# EAGLE library part AFC24-S30FIC-00 (library AFC24-S30FIC-00)
FFC,FPC Contact,Bottom 30 0.020"0.50mm P=0.5mm FFC, FPC Connectors Source: Datasheet <https://datasheet.lcsc.com/szlcsc/JUSHUO-AFC24-S30FIC-00_C262294.pdf>
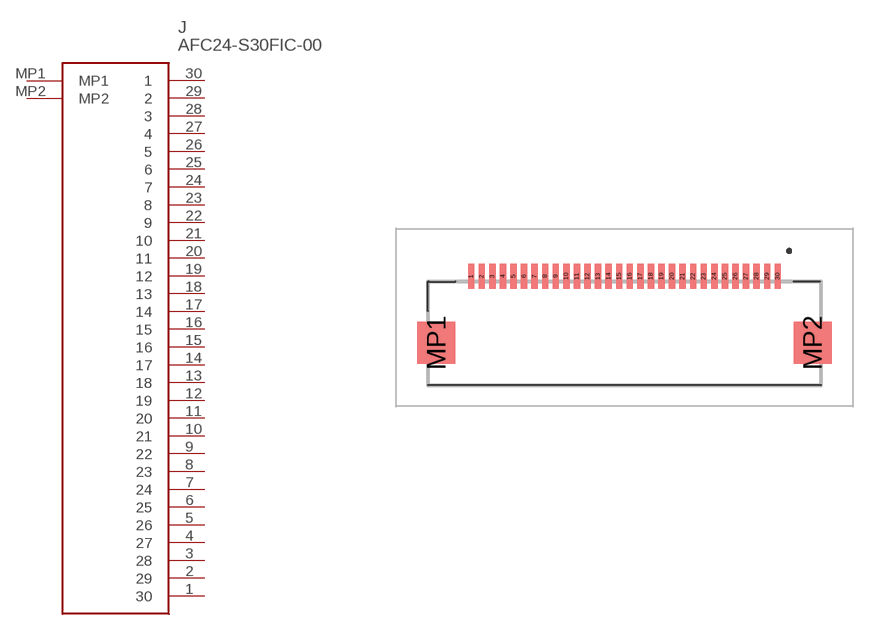
[diagram p0: symbol with the pads of AFC24S30FIC00; footprint AFC24S30FIC00]

Designator prefix J

## AFC24-S30FIC-00 (DESCRIPTION: FFC,FPC Contact,Bottom 30 0.020"0.50mm P=0.5mm FFC, FPC Connectors; HEIGHT: 3.1mm; LCSC_PART_NUMBER: C262294; LCSC_PRICE-STOCK: https://lcsc.com/product-detail/FFC-FPC-Connectors_JUSHUO-AFC24-S30FIC-00_C262294.html; MANUFACTURER_NAME: JUSHUO; MANUFACTURER_PART_NUMBER: AFC24-S30FIC-00)  [AFC24S30FIC00]
1  30
2  29
3  28
4  27
5  26
6  25
7  24
8  23
9  22
10  21
11  20
12  19
13  18
14  17
15  16
16  15
17  14
18  13
19  12
20  11
21  10
22  9
23  8
24  7
25  6
26  5
27  4
28  3
29  2
30  1
MP1  MP1
MP2  MP2

## Footprint AFC24S30FIC00 (pad centres in mm)
AFC24-S30FIC-00-2
smd 0.3 x 1.2: 1 -7.25,2.7; 2 -6.75,2.7; 3 -6.25,2.7; 4 -5.75,2.7; 5 -5.25,2.7; 6 -4.75,2.7; 7 -4.25,2.7; 8 -3.75,2.7; 9 -3.25,2.7; 10 -2.75,2.7; 11 -2.25,2.7; 12 -1.75,2.7; 13 -1.25,2.7; 14 -0.75,2.7; 15 -0.25,2.7; 16 0.25,2.7; 17 0.75,2.7; 18 1.25,2.7; 19 1.75,2.7; 20 2.25,2.7; 21 2.75,2.7; 22 3.25,2.7; 23 3.75,2.7; 24 4.25,2.7; 25 4.75,2.7; 26 5.25,2.7; 27 5.75,2.7; 28 6.25,2.7; 29 6.75,2.7; 30 7.25,2.7
smd 1.8 x 2: MP1 -8.9,-0.45; MP2 8.9,-0.45